# EAGLE library part ACS710 (library custom)
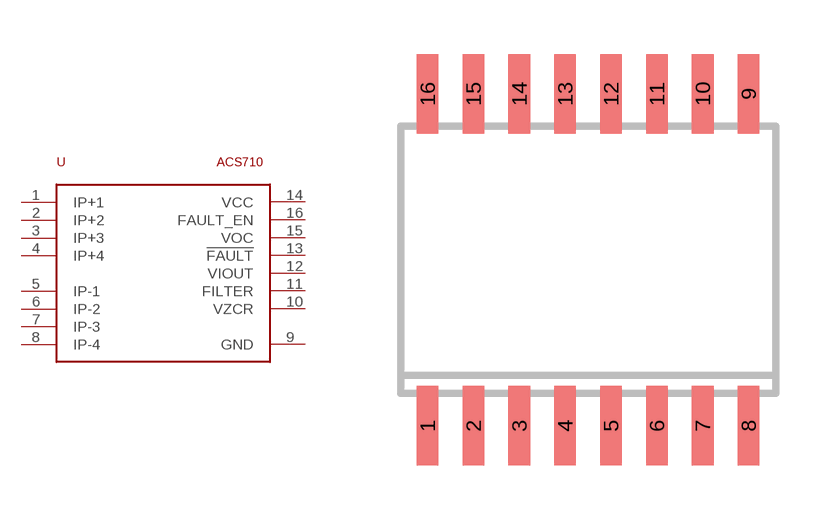
[diagram p2: symbol with the pads of SO16W; footprint SO16W]

Designator prefix -

## ACS710  [SO16W]
1  IP+1
2  IP+2
3  IP+3
4  IP+4
5  IP-1
6  IP-2
7  IP-3
8  IP-4
9  GND
10  VZCR
11  FILTER
12  VIOUT
13  !FAULT
14  VCC
15  VOC
16  FAULT_EN

## Footprint SO16W (pad centres in mm)
SMALL OUTLINE INTEGRATED CIRCUIT wide body 7.5 mm/JEDEC MS-013AA
smd 0.6 x 2.2: 1 -4.445,-4.6; 2 -3.175,-4.6; 3 -1.905,-4.6; 4 -0.635,-4.6; 5 0.635,-4.6; 6 1.905,-4.6; 7 3.175,-4.6; 8 4.445,-4.6; 9 4.445,4.6; 10 3.175,4.6; 11 1.905,4.6; 12 0.635,4.6; 13 -0.635,4.6; 14 -1.905,4.6; 15 -3.175,4.6; 16 -4.445,4.6